# Altium footprint library 39-30-1181.PCBLIB: 1 footprints
Each footprint in its own frame and in the unit in brackets; x right, y up, seen from the top. Pads: shape width x height; smd on the part's side, far side on the other; paste and mask are expansions set on the pad; w line width, h text height; cw(c..) or ccw(c..) is an arc to the next point about the centre after c.
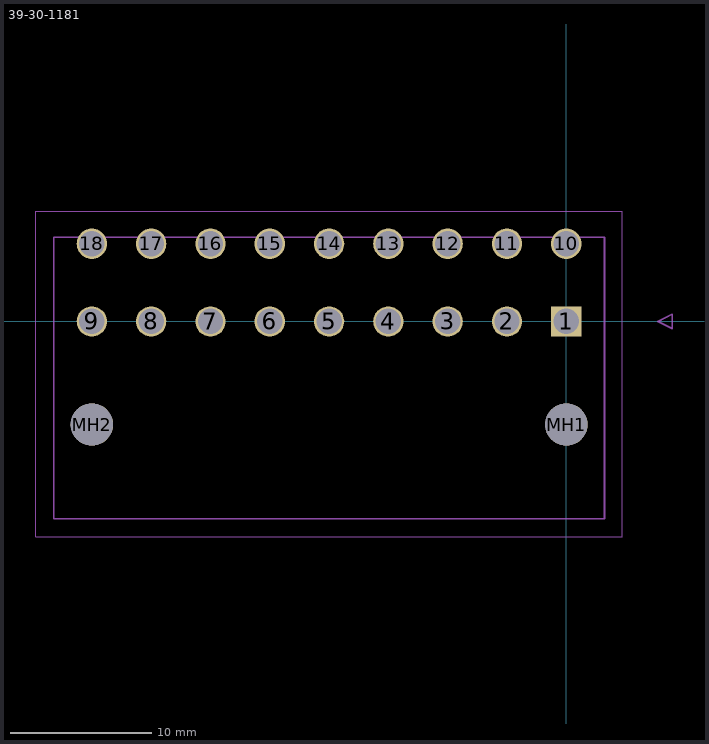
[diagram p0: the footprint, top view; thin cyan lines are the x and y axes]

## 39-30-1181 [mm]
pads (20):
  rect 2.15x2.15 / inner round 1.986 / far side rect 2.15x2.15 hole 1.8: 1(0,0)
  round 2.15 hole 1.8: 2(-4.2,0) 3(-8.4,0) 4(-12.6,0) 5(-16.8,0) 6(-21,0) 7(-25.2,0) 8(-29.4,0) 9(-33.6,0) 10(0,5.5) 11(-4.2,5.5) 12(-8.4,5.5) 13(-12.6,5.5) 14(-16.8,5.5) 15(-21,5.5) 16(-25.2,5.5) 17(-29.4,5.5) 18(-33.6,5.5)
  round 3 hole 3 unplated: MH1(0,-7.3) MH2(-33.6,-7.3)
tDocu:
  lines w0.05: -37.57,-15.238 -37.57,7.794 3.97,7.794 3.97,-15.238 -37.57,-15.238
  lines w0.127: -36.3,-13.968 -36.3,5.968 2.7,5.968 2.7,-13.968 -36.3,-13.968 ; 6.5,0 7.5,0.5 7.5,-0.5 6.5,0
tPlace:
  lines w0.127: -36.3,5.968 -36.3,-13.968 2.7,-13.968 2.7,5.968 ; 6.5,0 7.5,0.5 7.5,-0.5 6.5,0
3D body "39-30-1181.stp": height 11.4, standoff -3.6, extent -36.298,-13.818 3.099,6.117